# Altium schematic symbol library LED_BIC.SchLib: 1 symbol
Pins are listed as number, name and electrical type; pins without a type are passive.

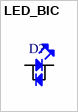
[diagram p0: symbol LED_BIC]

## LED_BIC
designator D?  (value not drawn)
pins: 1 A, 2